# Altium footprint library LED_RGB_5MM.PcbLib: 1 footprints
Each footprint in its own frame and in the unit in brackets; x right, y up, seen from the top. Pads: shape width x height; smd on the part's side, far side on the other; paste and mask are expansions set on the pad; w line width, h text height; cw(c..) or ccw(c..) is an arc to the next point about the centre after c.
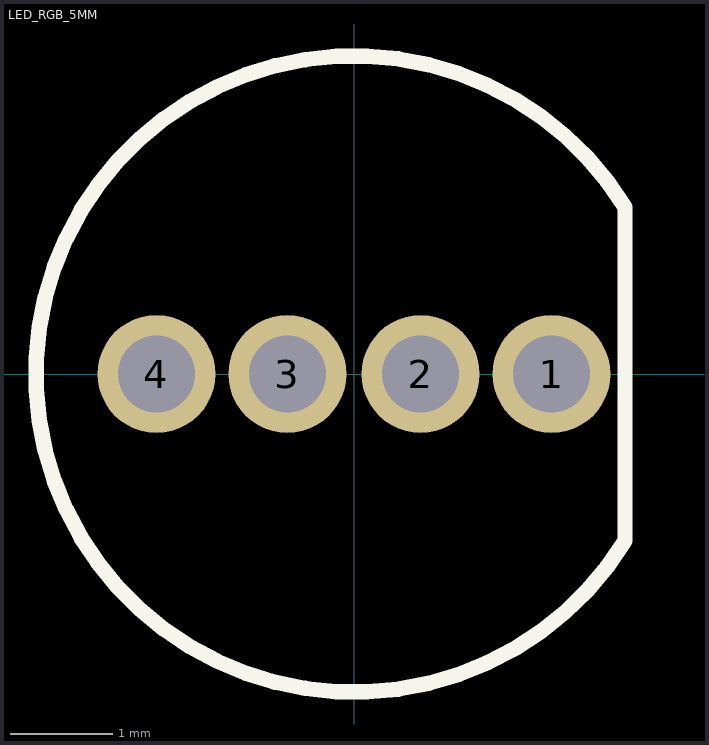
[diagram p0: the footprint, top view; thin cyan lines are the x and y axes]

## LED_RGB_5MM [mm] "5mm RGB LED"
pads (4):
  round 1.15 hole 0.75 mask+0.075: 1(1.925,0) 2(0.65,0) 3(-0.65,0) 4(-1.925,0)
Top Overlay:
  lines w0.15: 2.64,-1.625 cw(c0,0) 2.64,1.625 2.64,-1.625
3D body "LED T-1, dia 5mm, RGB, h2mm.stp": height 8.6, standoff -5, extent -2.925,-2.949 2.521,2.949